# EAGLE library part 74LVC244 (library MCE_CircuitosIntegrados)
Octal buffer/line driver; 3-state 74LVC244
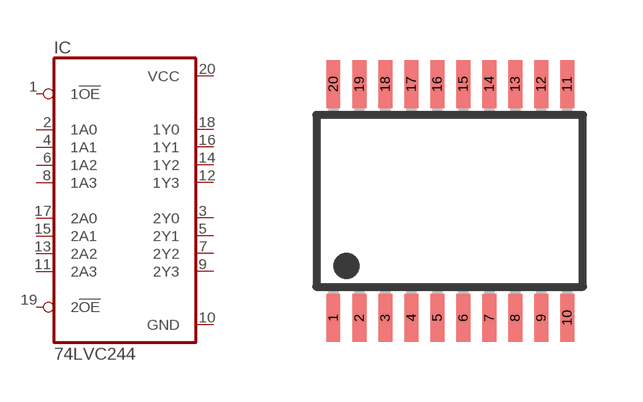
[diagram p8: symbol with the pads of TSSOP20; footprint TSSOP20]

Designator prefix IC

## 74LVC244  [TSSOP20]
1  1!OE  in
2  1A0  in
3  2Y0  out
4  1A1  in
5  2Y1  out
6  1A2  in
7  2Y2  out
8  1A3  in
9  2Y3  out
10  GND  pwr
11  2A3  in
12  1Y3  out
13  2A2  in
14  1Y2  out
15  2A1  in
16  1Y1  out
17  2A0  in
18  1Y0  out
19  2!OE  in
20  VCC  pwr

## Footprint TSSOP20 (pad centres in mm)
smd 0.35 x 1.2: 1 -2.91,-2.925; 2 -2.26,-2.925; 3 -1.61,-2.925; 4 -0.96,-2.925; 5 -0.31,-2.925; 6 0.34,-2.925; 7 0.99,-2.925; 8 1.64,-2.925; 9 2.29,-2.925; 10 2.94,-2.925; 11 2.94,2.925; 12 2.29,2.925; 13 1.64,2.925; 14 0.99,2.925; 15 0.34,2.925; 16 -0.31,2.925; 17 -0.96,2.925; 18 -1.61,2.925; 19 -2.26,2.925; 20 -2.91,2.925